# Altium integrated library SFM-115-01-L-D-LC.IntLib: 2 symbols
Pins are listed as number, name and electrical type; pins without a type are passive.

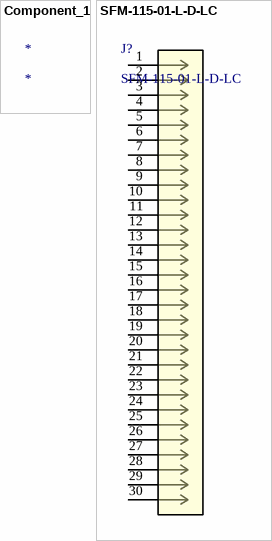
[diagram p0: symbols Component_1 to SFM-115-01-L-D-LC]

## Component_1
designator *

## SFM-115-01-L-D-LC
designator J?
No Description Available; Mfr_Name: Samtec Inc; Copyright: Copyright (C) 2022 Ultra Librarian. All rights reserved.; Manufacturer_Part_Number: SFM-115-01-L-D-LC; RefDes: RefDes; Type: DEV
footprint CONN_SFM-115-01-L-D-LC_SAI
pins: 1, 2, 3, 4, 5, 6, 7, 8, 9, 10, 11, 12, 13, 14, 15, 16, 17, 18, 19, 20, 21, 22, 23, 24, 25, 26, 27, 28, 29, 30